# Altium footprint library Bno055.PcbLib: 2 footprints
Each footprint in its own frame and in the unit in brackets; x right, y up, seen from the top. Pads: shape width x height; smd on the part's side, far side on the other; paste and mask are expansions set on the pad; w line width, h text height; cw(c..) or ccw(c..) is an arc to the next point about the centre after c.
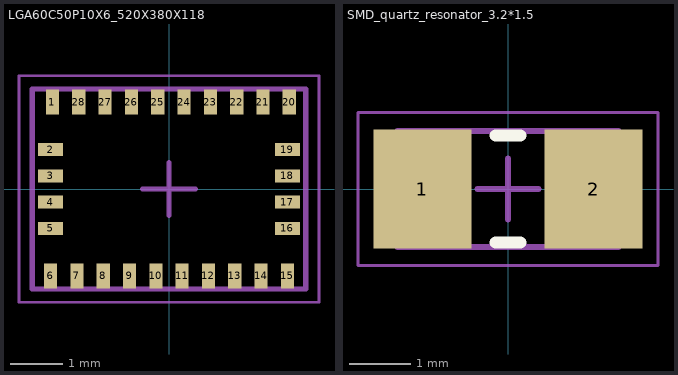
[diagram p0: the footprints below, top view; thin cyan lines are the x and y axes]

## LGA60C50P10X6_520X380X118 [mm] "LGA, 60-Leads, Body 5,20x3,80mmx1,18mm, Pitch 0,50mm"
height 1.18
pads (28):
  rect 0.25x0.475 smd: 1(-2.214,1.652) 6(-2.25,-1.652) 7(-1.75,-1.652) 8(-1.25,-1.652) 9(-0.75,-1.652) 10(-0.25,-1.652) 11(0.25,-1.652) 12(0.75,-1.652) 13(1.25,-1.652) 14(1.75,-1.652) 15(2.25,-1.652) 20(2.286,1.652) 21(1.786,1.652) 22(1.286,1.652) 23(0.786,1.652) 24(0.286,1.652) 25(-0.214,1.652) 26(-0.714,1.652) 27(-1.214,1.652) 28(-1.714,1.652)
  rect 0.475x0.25 smd: 2(-2.25,0.75) 3(-2.25,0.25) 4(-2.25,-0.25) 5(-2.25,-0.75) 16(2.25,-0.75) 17(2.25,-0.25) 18(2.25,0.25) 19(2.25,0.75)
Top Solder:
  rectangle: 1.913,-0.975 2.591,0.975
  rectangle: -2.589,-0.975 -1.911,0.975
  rectangle: -2.477,-1.991 2.477,-1.313
  rectangle: -2.441,1.313 2.514,1.991
Mechanical 13:
  lines w0.1: -2.6,-1.9 2.6,-1.9 2.6,1.9 -2.6,1.9 -2.6,-1.9
Mechanical 15:
  lines w0.05: -2.85,-2.15 2.85,-2.15 2.85,2.15 -2.85,2.15 -2.85,-2.15
  lines w0.1: -0.5,0 0.5,0 ; 0,-0.5 0,0.5
3D body "LGA60C50P10X6_520X380X118.step": height 1.18, standoff 0, extent -2.6,-1.9 2.6,1.9

## SMD_quartz_resonator_3.2*1.5 [mm]
height 0.75
pads (2):
  rect 1.6x1.95 smd: 1(-1.4,0) 2(1.4,0)
Top Overlay:
  lines w0.2: -0.2,-0.875 0.2,-0.875 ; -0.2,0.875 0.2,0.875
Mechanical 13:
  lines w0.1: -1.8,-0.95 1.8,-0.95 1.8,0.95 -1.8,0.95 -1.8,-0.95
Mechanical 15:
  lines w0.05: -2.45,-1.25 2.45,-1.25 2.45,1.25 -2.45,1.25 -2.45,-1.25
  lines w0.1: -0.5,0 0.5,0 ; 0,-0.5 0,0.5
3D body: height 0.75, standoff 0, extent 0.8,-0.95 1.8,0.95
3D body: height 0.75, standoff 0, extent -1.8,-0.95 -0.8,0.95
3D body: height 0.75, standoff 0, extent -0.8,-0.95 0.8,0.95